# Altium schematic symbol library Connectors_SUFST.SchLib: 54 symbols
Pins are listed as number, name and electrical type; pins without a type are passive.

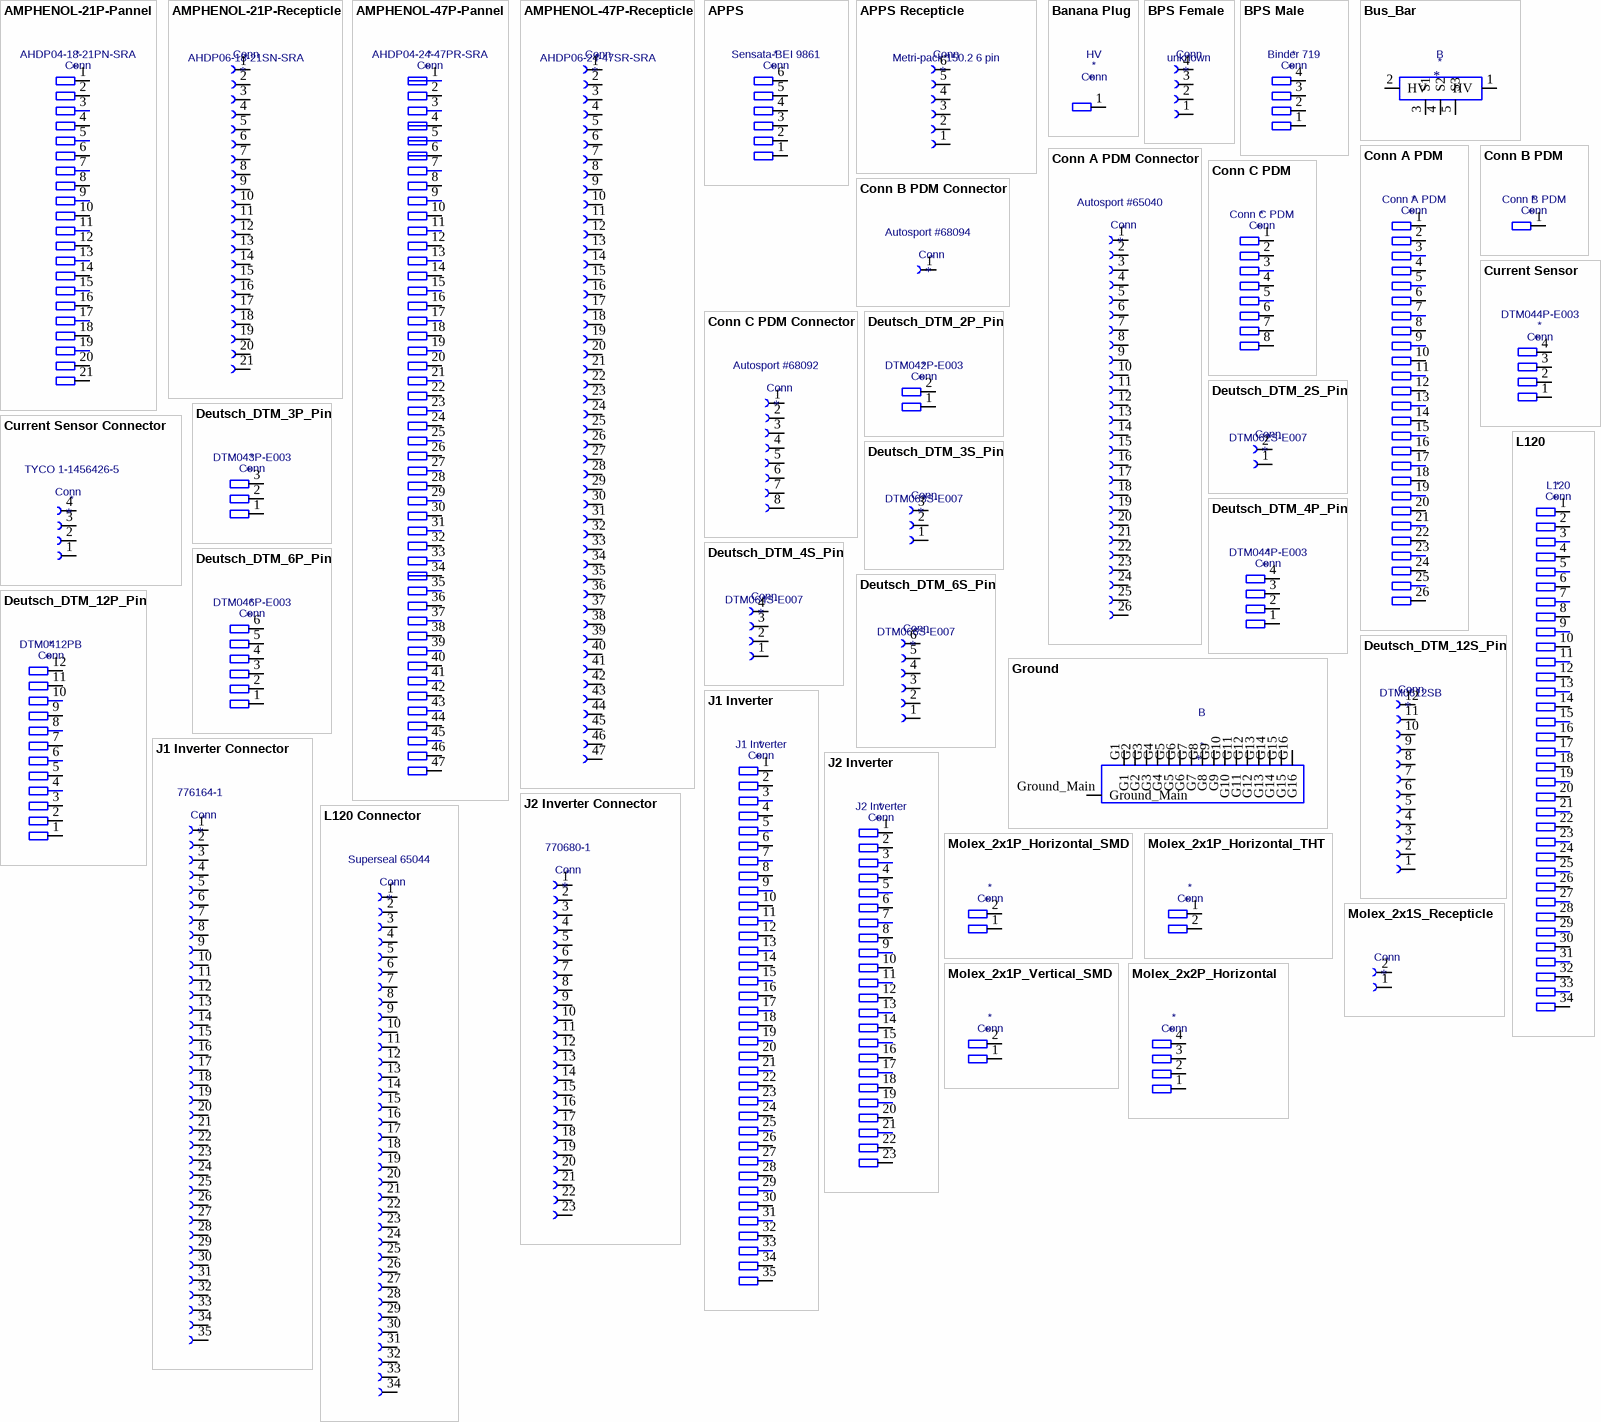
[diagram p0: symbols AMPHENOL-21P-Pannel to Molex_2x2P_Horizontal]

## AMPHENOL-21P-Pannel
designator *  Reference: Conn  P/N: AHDP04-18-21PN-SRA
Value: AMPHENOL-21P-Pannel
pins: 1, 2, 3, 4, 5, 6, 7, 8, 9, 10, 11, 12, 13, 14, 15, 16, 17, 18, 19, 20, 21

## AMPHENOL-21P-Recepticle
designator *  Reference: Conn  P/N: AHDP06-18-21SN-SRA
Value: AMPHENOL-21P-Recepticle
pins: 1, 2, 3, 4, 5, 6, 7, 8, 9, 10, 11, 12, 13, 14, 15, 16, 17, 18, 19, 20, 21

## AMPHENOL-47P-Pannel
designator *  Reference: Conn  P/N: AHDP04-24-47PR-SRA
Value: AMPHENOL-47P-Pannel
pins: 1, 2, 3, 4, 5, 6, 7, 8, 9, 10, 11, 12, 13, 14, 15, 16, 17, 18, 19, 20, 21, 22, 23, 24, 25, 26, 27, 28, 29, 30, 31, 32, 33, 34, 35, 36, 37, 38, 39, 40, 41, 42, 43, 44, 45, 46, 47

## AMPHENOL-47P-Recepticle
designator *  Reference: Conn  P/N: AHDP06-24-47SR-SRA
Value: AMPHENOL-47P-Recepticle
pins: 1, 2, 3, 4, 5, 6, 7, 8, 9, 10, 11, 12, 13, 14, 15, 16, 17, 18, 19, 20, 21, 22, 23, 24, 25, 26, 27, 28, 29, 30, 31, 32, 33, 34, 35, 36, 37, 38, 39, 40, 41, 42, 43, 44, 45, 46, 47

## APPS
designator *  Reference: Conn  P/N: Sensata-BEI 9861
Value: APPS
pins: 1, 2, 3, 4, 5, 6

## APPS Recepticle
designator *  Reference: Conn  P/N: Metri-pack 150.2 6 pin
Value: APPS Recepticle
pins: 1, 2, 3, 4, 5, 6

## Banana Plug
designator *  Reference: Conn  Connection Type: HV
Value: Banana Plug
pins: 1

## BPS Female
designator *  Reference: Conn  P/N: unknown
Value: BPS Female
pins: 1, 2, 3, 4

## BPS Male
designator *  Reference: Conn  P/N: Binder 719
Value: BPS Male; Datasheet: https://www.aimtechnologies.com/support/sensors/Datasheet_Pressure0-10Bar_102_eng.pdf
pins: 1, 2, 3, 4

## Bus_Bar
designator *  Reference: B
pins: 1 HV, 2 HV, 3 S1, 4 S2, 5 S3

## Conn A PDM
designator *  value Conn A PDM  Reference: Conn
pins: 1, 2, 3, 4, 5, 6, 7, 8, 9, 10, 11, 12, 13, 14, 15, 16, 17, 18, 19, 20, 21, 22, 23, 24, 25, 26

## Conn A PDM Connector
designator *  Reference: Conn  P/N: Autosport #65040
Value: Conn A PDM Connector
pins: 1, 2, 3, 4, 5, 6, 7, 8, 9, 10, 11, 12, 13, 14, 15, 16, 17, 18, 19, 20, 21, 22, 23, 24, 25, 26

## Conn B PDM
designator *  value Conn B PDM  Reference: Conn
pins: 1

## Conn B PDM Connector
designator *  Reference: Conn  P/N: Autosport #68094
Value: Conn B PDM Connector
pins: 1

## Conn C PDM
designator *  value Conn C PDM  Reference: Conn
pins: 1, 2, 3, 4, 5, 6, 7, 8

## Conn C PDM Connector
designator *  Reference: Conn  P/N: Autosport #68092
Value: Conn C PDM Connector
pins: 1, 2, 3, 4, 5, 6, 7, 8

## Current Sensor
designator *  Reference: Conn  P/N: DTM044P-E003
Value: Current Sensor
pins: 1, 2, 3, 4

## Current Sensor Connector
designator *  Reference: Conn  P/N: TYCO 1-1456426-5
Value: Current Sensor Connector
pins: 1, 2, 3, 4

## Deutsch_DTM_2P_Pin
designator *  Reference: Conn  P/N: DTM042P-E003
Value: Deutsch_DTM_2P_Pin
pins: 1, 2

## Deutsch_DTM_2S_Pin
designator *  Reference: Conn  P/N: DTM062S-E007
Value: Deutsch_DTM_2S_Pin
pins: 1, 2

## Deutsch_DTM_3P_Pin
designator *  Reference: Conn  P/N: DTM043P-E003
Value: Deutsch_DTM_3P_Pin
pins: 1, 2, 3

## Deutsch_DTM_3S_Pin
designator *  Reference: Conn  P/N: DTM063S-E007
Value: Deutsch_DTM_3S_Pin
pins: 1, 2, 3

## Deutsch_DTM_4P_Pin
designator *  Reference: Conn  P/N: DTM044P-E003
Value: Deutsch_DTM_4P_Pin
pins: 1, 2, 3, 4

## Deutsch_DTM_4S_Pin
designator *  Reference: Conn  P/N: DTM064S-E007
Value: Deutsch_DTM_4S_Pin
pins: 1, 2, 3, 4

## Deutsch_DTM_6P_Pin
designator *  Reference: Conn  P/N: DTM046P-E003
Value: Deutsch_DTM_6P_Pin
pins: 1, 2, 3, 4, 5, 6

## Deutsch_DTM_6S_Pin
designator *  Reference: Conn  P/N: DTM066S-E007
Value: Deutsch_DTM_6S_Pin
pins: 1, 2, 3, 4, 5, 6

## Deutsch_DTM_12P_Pin
designator *  Reference: Conn  P/N: DTM0412PB
Value: Deutsch_DTM_12P_Pin
pins: 1, 2, 3, 4, 5, 6, 7, 8, 9, 10, 11, 12

## Deutsch_DTM_12S_Pin
designator *  Reference: Conn  P/N: DTM0612SB
Value: Deutsch_DTM_12S_Pin
pins: 1, 2, 3, 4, 5, 6, 7, 8, 9, 10, 11, 12

## Ground
designator *  Reference: B
pins: G1, G2, G3, G4, G5, G6, G7, G8, G9, G10, G11, G12, G13, G14, G15, G16, Ground_Main

## J1 Inverter
designator *  value J1 Inverter  Reference: Conn
pins: 1, 2, 3, 4, 5, 6, 7, 8, 9, 10, 11, 12, 13, 14, 15, 16, 17, 18, 19, 20, 21, 22, 23, 24, 25, 26, 27, 28, 29, 30, 31, 32, 33, 34, 35

## J1 Inverter Connector
designator *  Reference: Conn  P/N: 776164-1
Value: J1 Inverter Connector
pins: 1, 2, 3, 4, 5, 6, 7, 8, 9, 10, 11, 12, 13, 14, 15, 16, 17, 18, 19, 20, 21, 22, 23, 24, 25, 26, 27, 28, 29, 30, 31, 32, 33, 34, 35

## J2 Inverter
designator *  value J2 Inverter  Reference: Conn
pins: 1, 2, 3, 4, 5, 6, 7, 8, 9, 10, 11, 12, 13, 14, 15, 16, 17, 18, 19, 20, 21, 22, 23

## J2 Inverter Connector
designator *  Reference: Conn  P/N: 770680-1
Value: J2 Inverter Connector
pins: 1, 2, 3, 4, 5, 6, 7, 8, 9, 10, 11, 12, 13, 14, 15, 16, 17, 18, 19, 20, 21, 22, 23

## L120
designator *  value L120  Reference: Conn
pins: 1, 2, 3, 4, 5, 6, 7, 8, 9, 10, 11, 12, 13, 14, 15, 16, 17, 18, 19, 20, 21, 22, 23, 24, 25, 26, 27, 28, 29, 30, 31, 32, 33, 34

## L120 Connector
designator *  Reference: Conn  P/N: Superseal 65044
Value: L120 Connector
pins: 1, 2, 3, 4, 5, 6, 7, 8, 9, 10, 11, 12, 13, 14, 15, 16, 17, 18, 19, 20, 21, 22, 23, 24, 25, 26, 27, 28, 29, 30, 31, 32, 33, 34

## Molex_2x1P_Horizontal_SMD
designator *  Reference: Conn
Value: Molex_2x1P_Horizontal_SMD; P/N: 43650-0212
pins: 1, 2

## Molex_2x1P_Horizontal_THT
designator *  Reference: Conn
Value: Molex_2x1P_Horizontal_THT; P/N: 43650-0200
pins: 1, 2

## Molex_2x1P_Vertical_SMD
designator *  Reference: Conn
Value: Molex_2x1P_Vertical_SMD; P/N: 43650-0224
pins: 1, 2

## Molex_2x1S_Recepticle
designator *  Reference: Conn
Value: Molex_2x1S_Recepticle; P/N: 43645-0200
pins: 1, 2

## Molex_2x2P_Horizontal
designator *  Reference: Conn
Value: Molex_2x2P_Horizontal; P/N: 43045-0400
pins: 1, 2, 3, 4

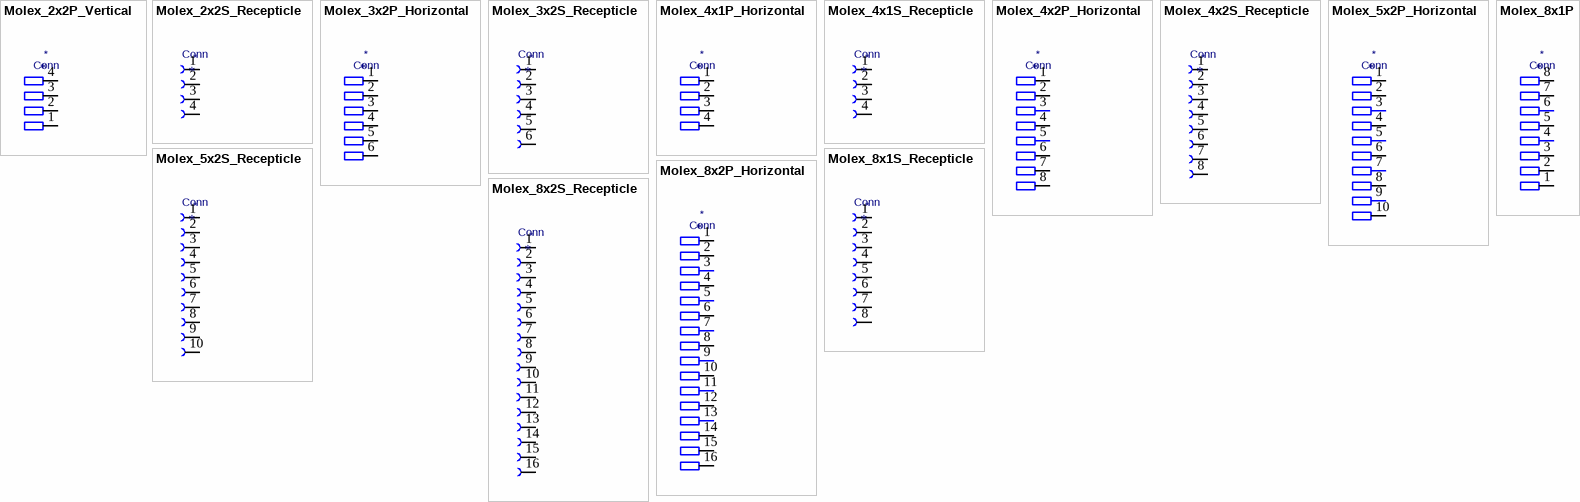
[diagram p1: symbols Molex_2x2P_Vertical to Molex_8x2S_Recepticle]

## Molex_2x2P_Vertical
designator *  Reference: Conn
Value: Molex_2x2P_Vertical; P/N: 43045-0414
pins: 1, 2, 3, 4

## Molex_2x2S_Recepticle
designator *  Reference: Conn
Value: Molex_2x2S_Recepticle; P/N: 43025-0400
pins: 1, 2, 3, 4

## Molex_3x2P_Horizontal
designator *  Reference: Conn
Value: Molex_3x2P_Horizontal; P/N: 43650-0600
pins: 1, 2, 3, 4, 5, 6

## Molex_3x2S_Recepticle
designator *  Reference: Conn
Value: Molex_3x2S_Recepticle; P/N: 43025-0600
pins: 1, 2, 3, 4, 5, 6

## Molex_4x1P_Horizontal
designator *  Reference: Conn
Value: Molex_4x1P_Horizontal; P/N: 43650-0400
pins: 1, 2, 3, 4

## Molex_4x1S_Recepticle
designator *  Reference: Conn
Value: Molex_4x1S_Recepticle; P/N: 43645-0400
pins: 1, 2, 3, 4

## Molex_4x2P_Horizontal
designator *  Reference: Conn
Value: Molex_4x2P_Horizontal; P/N: 43650-0800
pins: 1, 2, 3, 4, 5, 6, 7, 8

## Molex_4x2S_Recepticle
designator *  Reference: Conn
Value: Molex_4x2S_Recepticle; P/N: 43025-0800
pins: 1, 2, 3, 4, 5, 6, 7, 8

## Molex_5x2P_Horizontal
designator *  Reference: Conn
Value: Molex_5x2P_Horizontal; P/N: 43650-1000
pins: 1, 2, 3, 4, 5, 6, 7, 8, 9, 10

## Molex_5x2S_Recepticle
designator *  Reference: Conn
Value: Molex_5x2S_Recepticle; P/N: 43025-1000
pins: 1, 2, 3, 4, 5, 6, 7, 8, 9, 10

## Molex_8x1P
designator *  Reference: Conn
Value: Molex_8x1P; P/N: 43650-0800
pins: 1, 2, 3, 4, 5, 6, 7, 8

## Molex_8x1S_Recepticle
designator *  Reference: Conn
Value: Molex_8x1S_Recepticle; P/N: 43645-0800
pins: 1, 2, 3, 4, 5, 6, 7, 8

## Molex_8x2P_Horizontal
designator *  Reference: Conn
Value: Molex_8x2P_Horizontal; P/N: 43650-1600
pins: 1, 2, 3, 4, 5, 6, 7, 8, 9, 10, 11, 12, 13, 14, 15, 16

## Molex_8x2S_Recepticle
designator *  Reference: Conn
Value: Molex_8x2S_Recepticle; P/N: 43025-1600
pins: 1, 2, 3, 4, 5, 6, 7, 8, 9, 10, 11, 12, 13, 14, 15, 16